# Altium schematic symbol library WR-USB.SchLib: 52 symbols
Pins are listed as number, name and electrical type; pins without a type are passive.

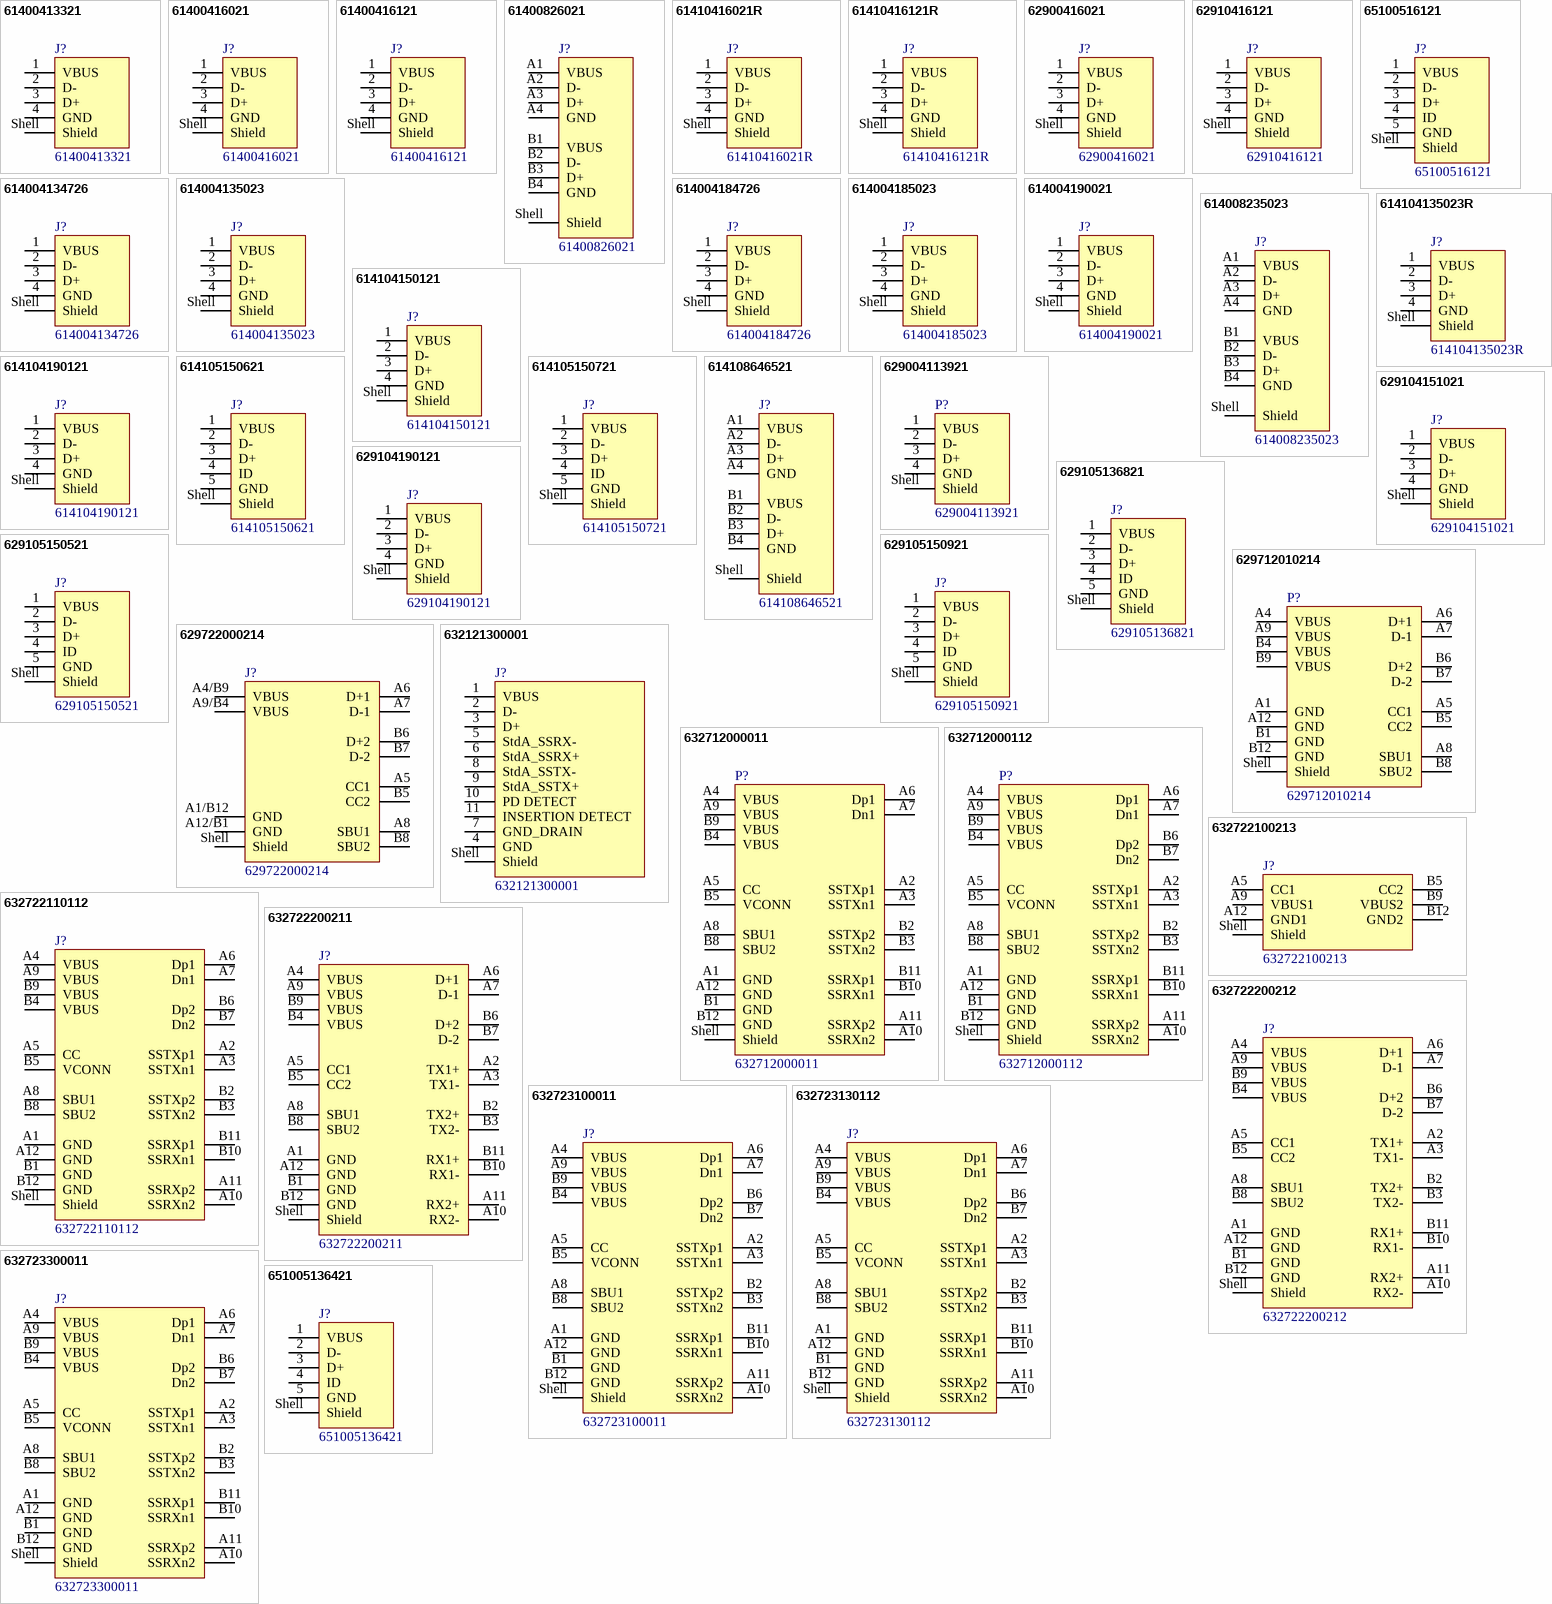
[diagram p0: symbols 61400413321 to 651005136421]

## 61400413321
designator J?
WR-COM USB 2.0 Type B Vertical; Manufacturer: Wurth Elektronik; Match Code: WR-USB; Gender: Receptacle; Interface Type: Type B; Number of Ports: 1; Rated Current: 1.5; Working Voltage: 30V (AC); Manufacturer Part Number: 61400413321; Category: Input/Output Connector; ComponentLink1Description: Website Link; ComponentLink1URL: https://www.we-online.com/redexpert/article/61400413321?ad; ComponentLink2Description: Datasheet Link; ComponentLink2URL: https://www.we-online.com/redexpert/spec/61400413321?ad; Mount: Through Hole; Operating Temperature Min: -40degC; Operating Temperature Max: 105degC; Packaging: Tray; Application: USB 2.0; Number of Pins: 4; Orientation: Vertical
footprint 629722000214 (USB TYPE C VERTICAL PLUG)
pins: 1 VBUS, 2 D-, 3 D+, 4 GND, Shell Shield

## 61400416021
designator J?
WR-COM USB 2.0 Type A Horizontal; Manufacturer: Wurth Elektronik; Match Code: WR-USB; Gender: Receptacle; Interface Type: Type A; Number of Ports: 1; Rated Current: 1.5; Working Voltage: 30V (AC); Manufacturer Part Number: 61400416021; Category: Input/Output Connector; ComponentLink1Description: Website Link; ComponentLink1URL: https://www.we-online.com/redexpert/article/61400416021?ad; ComponentLink2Description: Datasheet Link; ComponentLink2URL: https://www.we-online.com/redexpert/spec/61400416021?ad; Mount: Through Hole; Operating Temperature Min: -40degC; Operating Temperature Max: 105degC; Packaging: Tray; Application: USB 2.0; Number of Pins: 4; Orientation: Horizontal
footprint 61400416021
pins: 1 VBUS, 2 D-, 3 D+, 4 GND, Shell Shield

## 61400416121
designator J?
WR-COM USB 2.0 Horizontal THT; Manufacturer: Wurth Elektronik; Match Code: WR-USB; Gender: Receptacle; Interface Type: Type B; Number of Ports: 1; Rated Current: 1.5; Working Voltage: 30V (AC); Manufacturer Part Number: 61400416121; Category: Input/Output Connector; ComponentLink1Description: Website Link; ComponentLink1URL: https://www.we-online.com/redexpert/article/61400416121?ad; ComponentLink2Description: Datasheet Link; ComponentLink2URL: https://www.we-online.com/redexpert/spec/61400416121?ad; Mount: Through Hole; Operating Temperature Min: -40degC; Operating Temperature Max: 105degC; Packaging: Tray; Application: USB 2.0; Number of Pins: 4; Orientation: Horizontal
footprint 61400416121
pins: 1 VBUS, 2 D-, 3 D+, 4 GND, Shell Shield

## 61400826021
designator J?
WR-COM USB 2.0 Type A Horizontal Dual Stacked; Manufacturer: Wurth Elektronik; Match Code: WR-USB; Gender: Receptacle; Interface Type: Type A; Number of Ports: 2; Rated Current: 1.5; Working Voltage: 30V (AC); Manufacturer Part Number: 61400826021; Category: Input/Output Connector; ComponentLink1Description: Website Link; ComponentLink1URL: https://www.we-online.com/redexpert/article/61400826021?ad; ComponentLink2Description: Datasheet Link; ComponentLink2URL: https://www.we-online.com/redexpert/spec/61400826021?ad; Mount: Through Hole; Operating Temperature Min: -40degC; Operating Temperature Max: 105degC; Packaging: Tray; Application: USB 2.0; Number of Pins: 8; Orientation: Stacked Horizontal
footprint 61400826021
pins: A1 VBUS, A2 D-, A3 D+, A4 GND, B1 VBUS, B2 D-, B3 D+, B4 GND, Shell Shield

## 61410416021R
designator J?
WR-COM USB 2.0 Type A Horizontal THR; Manufacturer: Wurth Elektronik; Match Code: WR-USB; Gender: Receptacle; Interface Type: Type A; Number of Ports: 1; Rated Current: 1.5; Working Voltage: 30V (AC); Manufacturer Part Number: 61410416021R; Category: Input/Output Connector; ComponentLink1Description: Website Link; ComponentLink1URL: https://www.we-online.com/redexpert/article/61410416021R?ad; ComponentLink2Description: Datasheet Link; ComponentLink2URL: https://www.we-online.com/redexpert/spec/61410416021R?ad; Mount: Surface Mount; Operating Temperature Min: -55degC; Operating Temperature Max: 85degC; Packaging: Tape and Reel; Application: USB 2.0; Number of Pins: 4; Orientation: Horizontal
footprint 61410416021R
pins: 1 VBUS, 2 D-, 3 D+, 4 GND, Shell Shield

## 61410416121R
designator J?
WR-COM USB 2.0 Type B Horizontal THR; Manufacturer: Wurth Elektronik; Match Code: WR-USB; Gender: Receptacle; Interface Type: Type B; Number of Ports: 1; Rated Current: 1.5; Working Voltage: 30V (AC); Manufacturer Part Number: 61410416121R; Category: Input/Output Connector; ComponentLink1Description: Website Link; ComponentLink1URL: https://www.we-online.com/redexpert/article/61410416121R?ad; ComponentLink2Description: Datasheet Link; ComponentLink2URL: https://www.we-online.com/redexpert/spec/61410416121R?ad; Mount: Surface Mount; Operating Temperature Min: -55degC; Operating Temperature Max: 85degC; Packaging: Tape and Reel; Application: USB 2.0; Number of Pins: 4; Orientation: Horizontal
footprint 61410416121R
pins: 1 VBUS, 2 D-, 3 D+, 4 GND, Shell Shield

## 62900416021
designator J?
WR-COM USB 2.0 Type A Horizontal SMT; Manufacturer: Wurth Elektronik; Match Code: WR-USB; Gender: Receptacle; Interface Type: Type A; Number of Ports: 1; Rated Current: 1.5; Working Voltage: 30V (AC); Manufacturer Part Number: 62900416021; Category: Input/Output Connector; ComponentLink1Description: Website Link; ComponentLink1URL: https://www.we-online.com/redexpert/article/62900416021?ad; ComponentLink2Description: Datasheet Link; ComponentLink2URL: https://www.we-online.com/redexpert/spec/62900416021?ad; Mount: Surface Mount; Operating Temperature Min: -40degC; Operating Temperature Max: 105degC; Packaging: Tray; Application: USB 2.0; Number of Pins: 4; Orientation: Horizontal
footprint 62900416021
pins: 1 VBUS, 2 D-, 3 D+, 4 GND, Shell Shield

## 62910416121
designator J?
WR-COM USB 2.0 Type B Horizontal SMT; Manufacturer: Wurth Elektronik; Match Code: WR-USB; Gender: Receptacle; Interface Type: Type B; Number of Ports: 1; Rated Current: 1.5; Working Voltage: 30V (AC); Manufacturer Part Number: 62910416121; Category: Input/Output Connector; ComponentLink1Description: Website Link; ComponentLink1URL: https://www.we-online.com/redexpert/article/62910416121?ad; ComponentLink2Description: Datasheet Link; ComponentLink2URL: https://www.we-online.com/redexpert/spec/62910416121?ad; Mount: Surface Mount; Operating Temperature Min: -40degC; Operating Temperature Max: 105degC; Packaging: Tape and Reel; Application: USB 2.0; Number of Pins: 4; Orientation: Horizontal
footprint 62910416121
pins: 1 VBUS, 2 D-, 3 D+, 4 GND, Shell Shield

## 65100516121
designator J?
WR-COM Mini USB 2.0 Type B SMT Horizontal 5 Contacts; Manufacturer: Wurth Elektronik; Match Code: WR-USB; Gender: Receptacle; Interface Type: Type B; Number of Ports: 1; Working Voltage: 30V (AC); Manufacturer Part Number: 65100516121; Category: Input/Output Connector; ComponentLink1Description: Website Link; ComponentLink1URL: https://www.we-online.com/redexpert/article/65100516121?ad; ComponentLink2Description: Datasheet Link; ComponentLink2URL: https://www.we-online.com/redexpert/spec/65100516121?ad; Mount: Surface Mount; Operating Temperature Min: -40degC; Operating Temperature Max: 105degC; Packaging: Tape and Reel & Mylar; Application: Mini USB 2.0; Number of Pins: 5; Orientation: Horizontal; Rated Current: 1
footprint 65100516121
pins: 1 VBUS, 2 D-, 3 D+, 4 ID, 5 GND, Shell Shield

## 614004134726
designator J?
WR-COM USB 2.0 Type A Up Right; Manufacturer: Wurth Elektronik; Match Code: WR-USB; Gender: Receptacle; Interface Type: Type A; Number of Ports: 1; Rated Current: 1.5; Working Voltage: 30V (AC); Manufacturer Part Number: 614004134726; Category: Input/Output Connector; ComponentLink1Description: Website Link; ComponentLink1URL: https://www.we-online.com/redexpert/article/614004134726?ad; ComponentLink2Description: Datasheet Link; ComponentLink2URL: https://www.we-online.com/redexpert/spec/614004134726?ad; Mount: Through Hole; Operating Temperature Min: -40degC; Operating Temperature Max: 105degC; Packaging: Tray; Application: USB 2.0; Number of Pins: 4; Orientation: Up Right
footprint 614004134726
pins: 1 VBUS, 2 D-, 3 D+, 4 GND, Shell Shield

## 614004135023
designator J?
WR-COM USB 2.0 Type A Vertical; Manufacturer: Wurth Elektronik; Match Code: WR-USB; Gender: Receptacle; Interface Type: Type A; Number of Ports: 1; Rated Current: 1.5; Working Voltage: 30V (AC); Manufacturer Part Number: 614004135023; Category: Input/Output Connector; ComponentLink1Description: Website Link; ComponentLink1URL: https://www.we-online.com/redexpert/article/614004135023?ad; ComponentLink2Description: Datasheet Link; ComponentLink2URL: https://www.we-online.com/redexpert/spec/614004135023?ad; Mount: Through Hole; Operating Temperature Min: -40degC; Operating Temperature Max: 105degC; Packaging: Tray; Application: USB 2.0; Number of Pins: 4; Orientation: Vertical
footprint 614004135023
pins: 1 VBUS, 2 D-, 3 D+, 4 GND, Shell Shield

## 614004184726
designator J?
WR-COM USB 2.0 Type A Up Right THT; Manufacturer: Wurth Elektronik; Match Code: WR-USB; Gender: Receptacle; Interface Type: Type A; Number of Ports: 1; Rated Current: 2; Working Voltage: 30V (AC); Manufacturer Part Number: 614004184726; Category: Input/Output Connector; ComponentLink1Description: Website Link; ComponentLink1URL: https://www.we-online.com/redexpert/article/614004184726?ad; ComponentLink2Description: Datasheet Link; ComponentLink2URL: https://www.we-online.com/redexpert/spec/614004184726?ad; Mount: Through Hole; Operating Temperature Min: -40degC; Operating Temperature Max: 85degC; Packaging: Tray; Application: USB 2.0; Number of Pins: 4; Orientation: Up Right - Short Type
footprint 614004184726
pins: 1 VBUS, 2 D-, 3 D+, 4 GND, Shell Shield

## 614004185023
designator J?
WR-COM USB 2.0 Type A Vertical Short Type THT; Manufacturer: Wurth Elektronik; Match Code: WR-USB; Gender: Receptacle; Interface Type: Type A; Number of Ports: 1; Rated Current: 1.5; Working Voltage: 30V (AC); Manufacturer Part Number: 614004185023; Category: Input/Output Connector; ComponentLink1Description: Website Link; ComponentLink1URL: https://www.we-online.com/redexpert/article/614004185023?ad; ComponentLink2Description: Datasheet Link; ComponentLink2URL: https://www.we-online.com/redexpert/spec/614004185023?ad; Mount: Through Hole; Operating Temperature Min: -55degC; Operating Temperature Max: 85degC; Packaging: Tray; Application: USB 2.0; Number of Pins: 4; Orientation: Vertical - Short Type
footprint 614004185023
pins: 1 VBUS, 2 D-, 3 D+, 4 GND, Shell Shield

## 614004190021
designator J?
WR-COM USB 2.0 Type A Horizontal THT; Manufacturer: Wurth Elektronik; Match Code: WR-USB; Gender: Receptacle; Interface Type: Type A; Number of Ports: 1; Rated Current: 3; Working Voltage: 30V (AC); Manufacturer Part Number: 614004190021; Category: Input/Output Connector; ComponentLink1Description: Website Link; ComponentLink1URL: https://www.we-online.com/redexpert/article/614004190021?ad; ComponentLink2Description: Datasheet Link; ComponentLink2URL: https://www.we-online.com/redexpert/spec/614004190021?ad; Mount: Through Hole; Operating Temperature Min: -40degC; Operating Temperature Max: 85degC; Packaging: Tray; Application: USB 2.0; Number of Pins: 4; Orientation: Horizontal
footprint 614004190021
pins: 1 VBUS, 2 D-, 3 D+, 4 GND, Shell Shield

## 614008235023
designator J?
WR-COM USB 2.0 Type A Vertical Dual; Manufacturer: Wurth Elektronik; Match Code: WR-USB; Gender: Receptacle; Interface Type: Type A; Number of Ports: 2; Rated Current: 1.5; Working Voltage: 30V (AC); Manufacturer Part Number: 614008235023; Category: Input/Output Connector; ComponentLink1Description: Website Link; ComponentLink1URL: https://www.we-online.com/redexpert/article/614008235023?ad; ComponentLink2Description: Datasheet Link; ComponentLink2URL: https://www.we-online.com/redexpert/spec/614008235023?ad; Mount: Through Hole; Operating Temperature Min: -40degC; Operating Temperature Max: 105degC; Packaging: Tray; Application: USB 2.0; Number of Pins: 8; Orientation: Stacked Vertical
footprint 614008235023
pins: A1 VBUS, A2 D-, A3 D+, A4 GND, B1 VBUS, B2 D-, B3 D+, B4 GND, Shell Shield

## 614104135023R
designator J?
WR-COM USB 2.0 Type A Vertical THR; Manufacturer: Wurth Elektronik; Match Code: WR-USB; Gender: Receptacle; Interface Type: Type A; Number of Ports: 1; Rated Current: 1.5; Working Voltage: 30V (AC); Manufacturer Part Number: 614104135023R; Category: Input/Output Connector; ComponentLink1Description: Website Link; ComponentLink1URL: https://www.we-online.com/redexpert/article/614104135023R?ad; ComponentLink2Description: Datasheet Link; ComponentLink2URL: https://www.we-online.com/redexpert/spec/614104135023R?ad; Mount: Surface Mount; Operating Temperature Min: -55degC; Operating Temperature Max: 85degC; Packaging: Tape and Reel; Application: USB 2.0; Number of Pins: 4; Orientation: Vertical
footprint 614104135023R
pins: 1 VBUS, 2 D-, 3 D+, 4 GND, Shell Shield

## 614104150121
designator J?
WR-COM USB 2.0 Type A Horizontal THT Short Type; Manufacturer: Wurth Elektronik; Match Code: WR-USB; Gender: Receptacle; Interface Type: Type A; Number of Ports: 1; Rated Current: 1.5; Working Voltage: 30V (AC); Manufacturer Part Number: 614104150121; Category: Input/Output Connector; ComponentLink1Description: Website Link; ComponentLink1URL: https://www.we-online.com/redexpert/article/614104150121?ad; ComponentLink2Description: Datasheet Link; ComponentLink2URL: https://www.we-online.com/redexpert/spec/614104150121?ad; Mount: Through Hole; Operating Temperature Min: -40degC; Operating Temperature Max: 85degC; Packaging: Tape and Reel & Mylar; Application: USB 2.0; Number of Pins: 4; Orientation: Horizontal - Short Type
footprint 614104150121
pins: 1 VBUS, 2 D-, 3 D+, 4 GND, Shell Shield

## 614104190121
designator J?
WR-COM USB 2.0 Type A Horizontal THT Short Type; Manufacturer: Wurth Elektronik; Match Code: WR-USB; Gender: Receptacle; Interface Type: Type A; Number of Ports: 1; Rated Current: 1.5; Working Voltage: 30V (AC); Manufacturer Part Number: 614104190121; Category: Input/Output Connector; ComponentLink1Description: Website Link; ComponentLink1URL: https://www.we-online.com/redexpert/article/614104190121?ad; ComponentLink2Description: Datasheet Link; ComponentLink2URL: https://www.we-online.com/redexpert/spec/614104190121?ad; Mount: Through Hole; Operating Temperature Min: -55degC; Operating Temperature Max: 85degC; Packaging: Tape and Reel & Mylar; Application: USB 2.0; Number of Pins: 4; Orientation: Horizontal - Short Type
footprint 614104190121
pins: 1 VBUS, 2 D-, 3 D+, 4 GND, Shell Shield

## 614105150621
designator J?
WR-COM Micro USB 2.0 Type AB Vertical 5 Contacts; Manufacturer: Wurth Elektronik; Match Code: WR-USB; Gender: Receptacle; Interface Type: Type AB; Number of Ports: 1; Rated Current: 1.8; Working Voltage: 30V (AC); Manufacturer Part Number: 614105150621; Category: Input/Output Connector; ComponentLink1Description: Website Link; ComponentLink1URL: https://www.we-online.com/redexpert/article/614105150621?ad; ComponentLink2Description: Datasheet Link; ComponentLink2URL: https://www.we-online.com/redexpert/spec/614105150621?ad; Mount: Through Hole; Operating Temperature Min: -40degC; Operating Temperature Max: 85degC; Packaging: Tape and Reel; Application: Micro USB 2.0; Number of Pins: 5; Orientation: Vertical
footprint 614105150621
pins: 1 VBUS, 2 D-, 3 D+, 4 ID, 5 GND, Shell Shield

## 614105150721
designator J?
WR-COM Micro USB 2.0 Type B Vertical 5 Contacts; Manufacturer: Wurth Elektronik; Match Code: WR-USB; Gender: Receptacle; Interface Type: Type B; Number of Ports: 1; Rated Current: 1.8; Working Voltage: 30V (AC); Manufacturer Part Number: 614105150721; Category: Input/Output Connector; ComponentLink1Description: Website Link; ComponentLink1URL: https://www.we-online.com/redexpert/article/614105150721?ad; ComponentLink2Description: Datasheet Link; ComponentLink2URL: https://www.we-online.com/redexpert/spec/614105150721?ad; Mount: Through Hole; Operating Temperature Min: -40degC; Operating Temperature Max: 85degC; Packaging: Tape and Reel; Application: Micro USB 2.0; Number of Pins: 5; Orientation: Vertical
footprint 614105150721
pins: 1 VBUS, 2 D-, 3 D+, 4 ID, 5 GND, Shell Shield

## 614108646521
designator J?
WR-COM Type A Horizontal THR Dual Mid-Mount; Manufacturer: Wurth Elektronik; Match Code: WR-USB; Gender: Receptacle; Interface Type: Type A; Number of Ports: 2; Rated Current: 2.5; Working Voltage: 30V (AC); Manufacturer Part Number: 614108646521; Category: Input/Output Connector; ComponentLink1Description: Website Link; ComponentLink1URL: https://www.we-online.com/redexpert/article/614108646521?ad; ComponentLink2Description: Datasheet Link; ComponentLink2URL: https://www.we-online.com/redexpert/spec/614108646521?ad; Mount: Surface Mount; Operating Temperature Min: -40degC; Operating Temperature Max: 85degC; Packaging: Tape and Reel; Application: USB 2.0; Number of Pins: 8; Orientation: Stacked Horizontal
footprint 614108646521
pins: A1 VBUS, A2 D-, A3 D+, A4 GND, B1 VBUS, B2 D-, B3 D+, B4 GND, Shell Shield

## 629004113921
designator P?
WR-COM USB 2.0 Plug Type A SMT with Clip; Manufacturer: Wurth Elektronik; Match Code: WR-USB; Interface Type: Type A; Number of Ports: 1; Rated Current: 1.5; Working Voltage: 30V (AC); Manufacturer Part Number: 629004113921; Category: Input/Output Connector; ComponentLink1Description: Website Link; ComponentLink1URL: https://www.we-online.com/redexpert/article/629004113921?ad; ComponentLink2Description: Datasheet Link; ComponentLink2URL: https://www.we-online.com/redexpert/spec/629004113921?ad; Mount: Surface Mount; Operating Temperature Min: -40degC; Operating Temperature Max: 105degC; Packaging: Tube; Application: USB 2.0; Gender: Plug; Number of Pins: 4; Orientation: Horizontal
footprint 629004113921
pins: 1 VBUS, 2 D-, 3 D+, 4 GND, Shell Shield

## 629104151021
designator J?
WR-COM USB 2.0 Type A Horizontal SMT with pegs; Manufacturer: Wurth Elektronik; Match Code: WR-USB; Gender: Receptacle; Interface Type: Type A; Number of Ports: 1; Rated Current: 1.5; Working Voltage: 30V (AC); Manufacturer Part Number: 629104151021; Category: Input/Output Connector; ComponentLink1Description: Website Link; ComponentLink1URL: https://www.we-online.com/redexpert/article/629104151021?ad; ComponentLink2Description: Datasheet Link; ComponentLink2URL: https://www.we-online.com/redexpert/spec/629104151021?ad; Mount: Surface Mount; Operating Temperature Min: -40degC; Operating Temperature Max: 85degC; Packaging: Tape and Reel; Application: USB 2.0; Number of Pins: 4; Orientation: Horizontal
footprint 629104151021
pins: 1 VBUS, 2 D-, 3 D+, 4 GND, Shell Shield

## 629104190121
designator J?
WR-COM USB 2.0 Type A Horizontal SMT Short Type; Manufacturer: Wurth Elektronik; Match Code: WR-USB; Gender: Receptacle; Interface Type: Type A; Number of Ports: 1; Rated Current: 1.5; Working Voltage: 30V (AC); Manufacturer Part Number: 629104190121; Category: Input/Output Connector; ComponentLink1Description: Website Link; ComponentLink1URL: https://www.we-online.com/redexpert/article/629104190121?ad; ComponentLink2Description: Datasheet Link; ComponentLink2URL: https://www.we-online.com/redexpert/spec/629104190121?ad; Mount: Surface Mount; Operating Temperature Min: -40degC; Operating Temperature Max: 85degC; Packaging: Tape and Reel & Mylar; Application: USB 2.0; Number of Pins: 4; Orientation: Horizontal - Short Type
footprint 629104190121
pins: 1 VBUS, 2 D-, 3 D+, 4 GND, Shell Shield

## 629105136821
designator J?
WR-COM Micro USB 2.0 SMT Type B Horizontal 5 Contacts; Manufacturer: Wurth Elektronik; Match Code: WR-USB; Gender: Receptacle; Interface Type: Type B; Number of Ports: 1; Working Voltage: 30V (AC); Manufacturer Part Number: 629105136821; Category: Input/Output Connector; ComponentLink1Description: Website Link; ComponentLink1URL: https://www.we-online.com/redexpert/article/629105136821?ad; ComponentLink2Description: Datasheet Link; ComponentLink2URL: https://www.we-online.com/redexpert/spec/629105136821?ad; Mount: Surface Mount; Operating Temperature Min: -40degC; Operating Temperature Max: 105degC; Packaging: Tape and Reel; Application: Micro USB 2.0; Number of Pins: 5; Orientation: Horizontal; Rated Current: 1
footprint 629105136821
pins: 1 VBUS, 2 D-, 3 D+, 4 ID, 5 GND, Shell Shield

## 629105150521
designator J?
WR-COM Micro USB 2.0 SMT Type B Horizontal 5 Contacts High Current; Manufacturer: Wurth Elektronik; Match Code: WR-USB; Gender: Receptacle; Interface Type: Type B; Number of Ports: 1; Rated Current: 3; Working Voltage: 30V (AC); Manufacturer Part Number: 629105150521; Category: Input/Output Connector; ComponentLink1Description: Website Link; ComponentLink1URL: https://www.we-online.com/redexpert/article/629105150521?ad; ComponentLink2Description: Datasheet Link; ComponentLink2URL: https://www.we-online.com/redexpert/spec/629105150521?ad; Mount: Surface Mount; Operating Temperature Min: -40degC; Operating Temperature Max: 85degC; Packaging: Tape and Reel; Application: Micro USB 2.0; Number of Pins: 5; Orientation: Horizontal
footprint 629105150521
pins: 1 VBUS, 2 D-, 3 D+, 4 ID, 5 GND, Shell Shield

## 629105150921
designator J?
WR-COM Micro USB 2.0 Type AB Horizontal; Manufacturer: Wurth Elektronik; Match Code: WR-USB; Gender: Receptacle; Interface Type: Type AB; Number of Ports: 1; Rated Current: 1.8; Working Voltage: 30V (AC); Manufacturer Part Number: 629105150921; Category: Input/Output Connector; ComponentLink1Description: Website Link; ComponentLink1URL: https://www.we-online.com/redexpert/article/629105150921?ad; ComponentLink2Description: Datasheet Link; ComponentLink2URL: https://www.we-online.com/redexpert/spec/629105150921?ad; Mount: Surface Mount; Operating Temperature Min: -40degC; Operating Temperature Max: 85degC; Packaging: Tape and Reel; Application: Micro USB 2.0; Number of Pins: 5; Orientation: Horizontal
footprint 629105150921
pins: 1 VBUS, 2 D-, 3 D+, 4 ID, 5 GND, Shell Shield

## 629712010214
designator P?
WR-COM USB 2.0 Type C Plug Vertical SMT; Manufacturer: Wurth Elektronik; Match Code: WR-USB; Interface Type: Type C; Number of Ports: 1; Rated Current: 5; Working Voltage: 48V (DC); Manufacturer Part Number: 629712010214; Category: Input/Output Connector; ComponentLink1Description: Website Link; ComponentLink1URL: https://www.we-online.com/redexpert/article/629712010214?ad; ComponentLink2Description: Datasheet Link; ComponentLink2URL: https://www.we-online.com/redexpert/spec/629712010214?ad; Mount: Surface Mount; Operating Temperature Min: -40degC; Operating Temperature Max: 85degC; Packaging: Tape and Reel; Application: USB 2.0; Gender: Plug; Number of Pins: 16; Orientation: Vertical
footprint 629712010214
pins: A1 GND, A4 VBUS, A5 CC1, A6 D+1, A7 D-1, A8 SBU1, A9 VBUS, A12 GND, B1 GND, B4 VBUS, B5 CC2, B6 D+2, B7 D-2, B8 SBU2, B9 VBUS, B12 GND, Shell Shield

## 629722000214
designator J?
WR-COM USB 2.0 Type C Receptacle Horizontal SMT; Manufacturer: Wurth Elektronik; Match Code: WR-USB; Interface Type: Type C; Number of Ports: 1; Rated Current: 5; Working Voltage: 48V (DC); Manufacturer Part Number: 629722000214; Category: Input/Output Connector; ComponentLink1Description: Website Link; ComponentLink1URL: https://www.we-online.com/redexpert/article/629722000214?ad; ComponentLink2Description: Datasheet Link; ComponentLink2URL: https://www.we-online.com/redexpert/spec/629722000214?ad; Mount: Surface Mount; Operating Temperature Min: -40degC; Operating Temperature Max: 85degC; Packaging: Tape and Reel; Application: USB 2.0; Gender: Receptacle; Number of Pins: 16; Orientation: Horizontal
footprint 629722000214
pins: A1/B12 GND, A4/B9 VBUS, A5 CC1, A6 D+1, A7 D-1, A8 SBU1, A9/B4 VBUS, A12/B1 GND, B5 CC2, B6 D+2, B7 D-2, B8 SBU2, Shell Shield

## 632121300001
designator J?
WR-COM USB 3.1 Type A Receptacle Horizontal THT Power Delivery; Manufacturer: Wurth Elektronik; Match Code: WR-USB; Interface Type: Type A; Number of Ports: 1; Rated Current: 5; Working Voltage: 20V (DC); Manufacturer Part Number: 632121300001; Category: Input/Output Connector; ComponentLink1Description: Website Link; ComponentLink1URL: https://www.we-online.com/redexpert/article/632121300001?ad; ComponentLink2Description: Datasheet Link; ComponentLink2URL: https://www.we-online.com/redexpert/spec/632121300001?ad; Mount: Surface Mount; Operating Temperature Min: -20degC; Operating Temperature Max: 85degC; Packaging: Tray; Application: USB 3.1; Gender: Receptacle; Number of Pins: 9; Orientation: Horizontal
footprint 632121300001
pins: 1 VBUS, 2 D-, 3 D+, 4 GND, 5 StdA_SSRX-, 6 StdA_SSRX+, 7 GND_DRAIN, 8 StdA_SSTX-, 9 StdA_SSTX+, 10 PD DETECT, 11 INSERTION DETECT, Shell Shield

## 632712000011
designator P?
WR-COM USB 3.1 Type C Plug Horizontal SMT 0.8 mm; Manufacturer: Wurth Elektronik; Match Code: WR-USB; Interface Type: Type C; Number of Ports: 1; Rated Current: 5; Working Voltage: 20V (DC); Manufacturer Part Number: 632712000011; Category: Input/Output Connector; ComponentLink1Description: Website Link; ComponentLink1URL: https://www.we-online.com/redexpert/article/632712000011?ad; ComponentLink2Description: Datasheet Link; ComponentLink2URL: https://www.we-online.com/redexpert/spec/632712000011?ad; Mount: Surface Mount; Operating Temperature Min: -25degC; Operating Temperature Max: 105degC; Packaging: Tape and Reel with Cap; Application: USB 3.1; Gender: Plug; Number of Pins: 22; Orientation: Horizontal
footprint 632712000011
pins: A1 GND, A2 SSTXp1, A3 SSTXn1, A4 VBUS, A5 CC, A6 Dp1, A7 Dn1, A8 SBU1, A9 VBUS, A10 SSRXn2, A11 SSRXp2, A12 GND, B1 GND, B2 SSTXp2, B3 SSTXn2, B4 VBUS, B5 VCONN, B8 SBU2, B9 VBUS, B10 SSRXn1, B11 SSRXp1, B12 GND, Shell Shield

## 632712000112
designator P?
WR-COM USB 3.1 Type C Plug Horizontal 0.8 mm; Manufacturer: Wurth Elektronik; Match Code: WR-USB; Interface Type: Type C; Number of Ports: 1; Rated Current: 5; Working Voltage: 48V (DC); Manufacturer Part Number: 632712000112; Category: Input/Output Connector; ComponentLink1Description: Website Link; ComponentLink1URL: https://www.we-online.com/redexpert/article/632712000112?ad; ComponentLink2Description: Datasheet Link; ComponentLink2URL: https://www.we-online.com/redexpert/spec/632712000112?ad; Mount: Surface Mount; Operating Temperature Min: -40degC; Operating Temperature Max: 85degC; Packaging: Tray; Application: USB 3.1; Gender: Plug; Number of Pins: 24; Orientation: Horizontal
footprint 632712000112
pins: A1 GND, A2 SSTXp1, A3 SSTXn1, A4 VBUS, A5 CC, A6 Dp1, A7 Dn1, A8 SBU1, A9 VBUS, A10 SSRXn2, A11 SSRXp2, A12 GND, B1 GND, B2 SSTXp2, B3 SSTXn2, B4 VBUS, B5 VCONN, B6 Dp2, B7 Dn2, B8 SBU2, B9 VBUS, B10 SSRXn1, B11 SSRXp1, B12 GND, Shell Shield

## 632722100213
designator J?
WR-COM USB Power Delivery Type C Receptacle Horizontal SMT; Manufacturer: Wurth Elektronik; Match Code: WR-USB; Number of Ports: 1; Rated Current: 5; Working Voltage: 48V (DC); Manufacturer Part Number: 632722100213; Category: Input/Output Connector; ComponentLink1Description: Website Link; ComponentLink1URL: https://www.we-online.com/redexpert/article/632722100213?ad; ComponentLink2Description: Datasheet Link; ComponentLink2URL: https://www.we-online.com/redexpert/spec/632722100213?ad; Mount: Surface Mount; Operating Temperature Min: -40degC; Operating Temperature Max: 85degC; Packaging: Tape and Reel; Application: USB Power Delivery; Gender: Receptacle; Number of Pins: 6; Orientation: Horizontal
footprint 632722100213
pins: A5 CC1, A9 VBUS1, A12 GND1, B5 CC2, B9 VBUS2, B12 GND2, Shell Shield

## 632722110112
designator J?
WR-COM USB 3.1 Type C Receptacle Vertical SMT 1.0 mm; Manufacturer: Wurth Elektronik; Match Code: WR-USB; Interface Type: Type C; Number of Ports: 1; Rated Current: 5; Working Voltage: 48V (DC); Manufacturer Part Number: 632722110112; Category: Input/Output Connector; ComponentLink1Description: Website Link; ComponentLink1URL: https://www.we-online.com/redexpert/article/632722110112?ad; ComponentLink2Description: Datasheet Link; ComponentLink2URL: https://www.we-online.com/redexpert/spec/632722110112?ad; Mount: Surface Mount; Operating Temperature Min: -40degC; Operating Temperature Max: 85degC; Packaging: Tape and Reel; Application: USB 3.1; Gender: Receptacle; Number of Pins: 24; Orientation: Vertical
footprint 632722110112
pins: A1 GND, A2 SSTXp1, A3 SSTXn1, A4 VBUS, A5 CC, A6 Dp1, A7 Dn1, A8 SBU1, A9 VBUS, A10 SSRXn2, A11 SSRXp2, A12 GND, B1 GND, B2 SSTXp2, B3 SSTXn2, B4 VBUS, B5 VCONN, B6 Dp2, B7 Dn2, B8 SBU2, B9 VBUS, B10 SSRXn1, B11 SSRXp1, B12 GND, Shell Shield

## 632722200211
designator J?
WR-COM USB 3.1 Type C Receptacle Horizontal SMT; Manufacturer: Wurth Elektronik; Match Code: WR-USB; Interface Type: Type C; Number of Ports: 1; Rated Current: 5; Working Voltage: 20V (DC); Manufacturer Part Number: 632722200211; Category: Input/Output Connector; ComponentLink1Description: Website Link; ComponentLink1URL: https://www.we-online.com/redexpert/article/632722200211?ad; ComponentLink2Description: Datasheet Link; ComponentLink2URL: https://www.we-online.com/redexpert/spec/632722200211?ad; Mount: Surface Mount; Operating Temperature Min: -30degC; Operating Temperature Max: 85degC; Packaging: Tape and Reel; Application: USB 3.2 Gen 1; Gender: Receptacle; Number of Pins: 24; Orientation: Horizontal
footprint 632722200211
pins: A1 GND, A2 TX1+, A3 TX1-, A4 VBUS, A5 CC1, A6 D+1, A7 D-1, A8 SBU1, A9 VBUS, A10 RX2-, A11 RX2+, A12 GND, B1 GND, B2 TX2+, B3 TX2-, B4 VBUS, B5 CC2, B6 D+2, B7 D-2, B8 SBU2, B9 VBUS, B10 RX1-, B11 RX1+, B12 GND, Shell Shield

## 632722200212
designator J?
WR-COM USB 3.1 Type C Receptacle Horizontal High-Rise SMT; Manufacturer: Wurth Elektronik; Match Code: WR-USB; Interface Type: Type C; Number of Ports: 1; Rated Current: 5; Working Voltage: 48V (DC); Manufacturer Part Number: 632722200212; Category: Input/Output Connector; ComponentLink1Description: Website Link; ComponentLink1URL: https://www.we-online.com/redexpert/article/632722200212?ad; ComponentLink2Description: Datasheet Link; ComponentLink2URL: https://www.we-online.com/redexpert/spec/632722200212?ad; Mount: Surface Mount; Operating Temperature Min: -40degC; Operating Temperature Max: 120degC; Packaging: Tape and Reel; Application: USB 3.1; Gender: Receptacle; Number of Pins: 24; Orientation: Horizontal
footprint 632722200212
pins: A1 GND, A2 TX1+, A3 TX1-, A4 VBUS, A5 CC1, A6 D+1, A7 D-1, A8 SBU1, A9 VBUS, A10 RX2-, A11 RX2+, A12 GND, B1 GND, B2 TX2+, B3 TX2-, B4 VBUS, B5 CC2, B6 D+2, B7 D-2, B8 SBU2, B9 VBUS, B10 RX1-, B11 RX1+, B12 GND, Shell Shield

## 632723100011
designator J?
WR-COM USB 3.1 Type C Receptacle Horizontal THR / SMT; Manufacturer: Wurth Elektronik; Match Code: WR-USB; Interface Type: Type C; Number of Ports: 1; Rated Current: 5; Working Voltage: 48V (DC); Manufacturer Part Number: 632723100011; Category: Input/Output Connector; ComponentLink1Description: Website Link; ComponentLink1URL: https://www.we-online.com/redexpert/article/632723100011?ad; ComponentLink2Description: Datasheet Link; ComponentLink2URL: https://www.we-online.com/redexpert/spec/632723100011?ad; Mount: Surface Mount; Operating Temperature Min: -40degC; Operating Temperature Max: 105degC; Packaging: Tape and Reel; Application: USB 3.1; Gender: Receptacle; Number of Pins: 24; Orientation: Horizontal
footprint 632723100011
pins: A1 GND, A2 SSTXp1, A3 SSTXn1, A4 VBUS, A5 CC, A6 Dp1, A7 Dn1, A8 SBU1, A9 VBUS, A10 SSRXn2, A11 SSRXp2, A12 GND, B1 GND, B2 SSTXp2, B3 SSTXn2, B4 VBUS, B5 VCONN, B6 Dp2, B7 Dn2, B8 SBU2, B9 VBUS, B10 SSRXn1, B11 SSRXp1, B12 GND, Shell Shield

## 632723130112
designator J?
WR-COM USB 3.1 Type C Receptacle Horizontal Mid-Mount THR / SMT 1.6 mm; Manufacturer: Wurth Elektronik; Match Code: WR-USB; Interface Type: Type C; Number of Ports: 1; Rated Current: 5; Working Voltage: 48V (DC); Manufacturer Part Number: 632723130112; Category: Input/Output Connector; ComponentLink1Description: Website Link; ComponentLink1URL: https://www.we-online.com/redexpert/article/632723130112?ad; ComponentLink2Description: Datasheet Link; ComponentLink2URL: https://www.we-online.com/redexpert/spec/632723130112?ad; Mount: Surface Mount; Operating Temperature Min: -40degC; Operating Temperature Max: 85degC; Packaging: Tape and Reel; Application: USB 3.1; Gender: Receptacle; Number of Pins: 24; Orientation: Horizontal
footprint 632723130112
pins: A1 GND, A2 SSTXp1, A3 SSTXn1, A4 VBUS, A5 CC, A6 Dp1, A7 Dn1, A8 SBU1, A9 VBUS, A10 SSRXn2, A11 SSRXp2, A12 GND, B1 GND, B2 SSTXp2, B3 SSTXn2, B4 VBUS, B5 VCONN, B6 Dp2, B7 Dn2, B8 SBU2, B9 VBUS, B10 SSRXn1, B11 SSRXp1, B12 GND, Shell Shield

## 632723300011
designator J?
WR-COM USB 3.1 Type C Receptacle Horizontal THR / SMT; Manufacturer: Wurth Elektronik; Match Code: WR-USB; Interface Type: Type C; Number of Ports: 1; Rated Current: 5; Working Voltage: 48V (DC); Manufacturer Part Number: 632723300011; Category: Input/Output Connector; ComponentLink1Description: Website Link; ComponentLink1URL: https://www.we-online.com/redexpert/article/632723300011?ad; ComponentLink2Description: Datasheet Link; ComponentLink2URL: https://www.we-online.com/redexpert/spec/632723300011?ad; Mount: Surface Mount; Operating Temperature Min: -40degC; Operating Temperature Max: 105degC; Packaging: Tape and Reel; Application: USB 3.1; Gender: Receptacle; Number of Pins: 24; Orientation: Horizontal
footprint 632723300011
pins: A1 GND, A2 SSTXp1, A3 SSTXn1, A4 VBUS, A5 CC, A6 Dp1, A7 Dn1, A8 SBU1, A9 VBUS, A10 SSRXn2, A11 SSRXp2, A12 GND, B1 GND, B2 SSTXp2, B3 SSTXn2, B4 VBUS, B5 VCONN, B6 Dp2, B7 Dn2, B8 SBU2, B9 VBUS, B10 SSRXn1, B11 SSRXp1, B12 GND, Shell Shield

## 651005136421
designator J?
WR-COM Mini USB 2.0 Type B Vertical 5 Contacts; Manufacturer: Wurth Elektronik; Match Code: WR-USB; Gender: Receptacle; Interface Type: Type B; Number of Ports: 1; Working Voltage: 30V (AC); Manufacturer Part Number: 651005136421; Category: Input/Output Connector; ComponentLink1Description: Website Link; ComponentLink1URL: https://www.we-online.com/redexpert/article/651005136421?ad; ComponentLink2Description: Datasheet Link; ComponentLink2URL: https://www.we-online.com/redexpert/spec/651005136421?ad; Mount: Through Hole; Operating Temperature Min: -40degC; Operating Temperature Max: 105degC; Packaging: Tray; Application: Mini USB 2.0; Number of Pins: 5; Orientation: Vertical; Rated Current: 1
footprint 651005136421
pins: 1 VBUS, 2 D-, 3 D+, 4 ID, 5 GND, Shell Shield

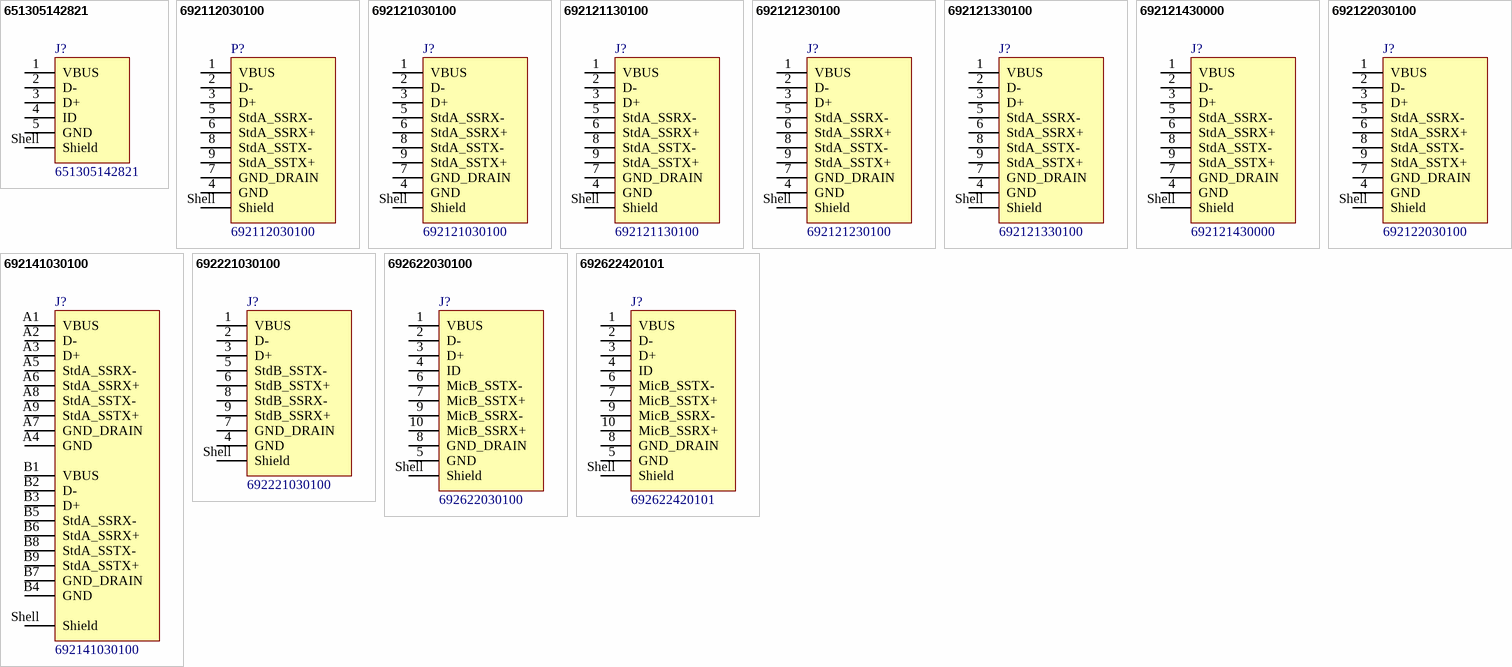
[diagram p1: symbols 651305142821 to 692622420101]

## 651305142821
designator J?
WR-COM Mini USB 2.0 Type AB SMT Horizontal 5 Contacts; Manufacturer: Wurth Elektronik; Match Code: WR-USB; Gender: Receptacle; Interface Type: Type AB; Number of Ports: 1; Working Voltage: 30V (AC); Manufacturer Part Number: 651305142821; Category: Input/Output Connector; ComponentLink1Description: Website Link; ComponentLink1URL: https://www.we-online.com/redexpert/article/651305142821?ad; ComponentLink2Description: Datasheet Link; ComponentLink2URL: https://www.we-online.com/redexpert/spec/651305142821?ad; Mount: Surface Mount; Operating Temperature Min: -40degC; Operating Temperature Max: 105degC; Packaging: Tape and Reel; Application: Mini USB 2.0; Number of Pins: 5; Orientation: Horizontal; Rated Current: 1
footprint 651305142821
pins: 1 VBUS, 2 D-, 3 D+, 4 ID, 5 GND, Shell Shield

## 692112030100
designator P?
WR-COM USB 3.0 Type A SMT Plug with Clip; Manufacturer: Wurth Elektronik; Match Code: WR-USB; Interface Type: Type A; Number of Ports: 1; Rated Current: 1.8; Working Voltage: 30V (AC); Manufacturer Part Number: 692112030100; Category: Input/Output Connector; ComponentLink1Description: Website Link; ComponentLink1URL: https://www.we-online.com/redexpert/article/692112030100?ad; ComponentLink2Description: Datasheet Link; ComponentLink2URL: https://www.we-online.com/redexpert/spec/692112030100?ad; Mount: Surface Mount; Operating Temperature Min: -20degC; Operating Temperature Max: 85degC; Packaging: Tray; Application: USB 3.0; Gender: Plug; Number of Pins: 9; Orientation: Horizontal
footprint 692112030100
pins: 1 VBUS, 2 D-, 3 D+, 4 GND, 5 StdA_SSRX-, 6 StdA_SSRX+, 7 GND_DRAIN, 8 StdA_SSTX-, 9 StdA_SSTX+, Shell Shield

## 692121030100
designator J?
WR-COM USB 3.0 Type A Horizontal; Manufacturer: Wurth Elektronik; Match Code: WR-USB; Gender: Receptacle; Interface Type: Type A; Number of Ports: 1; Rated Current: 1.8; Working Voltage: 30V (AC); Manufacturer Part Number: 692121030100; Category: Input/Output Connector; ComponentLink1Description: Website Link; ComponentLink1URL: https://www.we-online.com/redexpert/article/692121030100?ad; ComponentLink2Description: Datasheet Link; ComponentLink2URL: https://www.we-online.com/redexpert/spec/692121030100?ad; Mount: Through Hole; Operating Temperature Min: -20degC; Operating Temperature Max: 85degC; Packaging: Tape and Reel; Application: USB 3.0; Number of Pins: 9; Orientation: Horizontal
footprint 692121030100
pins: 1 VBUS, 2 D-, 3 D+, 4 GND, 5 StdA_SSRX-, 6 StdA_SSRX+, 7 GND_DRAIN, 8 StdA_SSTX-, 9 StdA_SSTX+, Shell Shield

## 692121130100
designator J?
WR-COM USB 3.0 Type A Reverse Horizontal with Offset 0.14 mm; Manufacturer: Wurth Elektronik; Match Code: WR-USB; Gender: Receptacle; Interface Type: Type A; Number of Ports: 1; Rated Current: 1.8; Working Voltage: 30V (AC); Manufacturer Part Number: 692121130100; Category: Input/Output Connector; ComponentLink1Description: Website Link; ComponentLink1URL: https://www.we-online.com/redexpert/article/692121130100?ad; ComponentLink2Description: Datasheet Link; ComponentLink2URL: https://www.we-online.com/redexpert/spec/692121130100?ad; Mount: Surface Mount; Operating Temperature Min: -20degC; Operating Temperature Max: 85degC; Packaging: Tape and Reel; Application: USB 3.0; Number of Pins: 9; Orientation: Reverse Horizontal
footprint 692121130100
pins: 1 VBUS, 2 D-, 3 D+, 4 GND, 5 StdA_SSRX-, 6 StdA_SSRX+, 7 GND_DRAIN, 8 StdA_SSTX-, 9 StdA_SSTX+, Shell Shield

## 692121230100
designator J?
WR-COM USB 3.0 Type A Horizontal with Offset 1.04 mm; Manufacturer: Wurth Elektronik; Match Code: WR-USB; Gender: Receptacle; Interface Type: Type A; Number of Ports: 1; Rated Current: 1.8; Working Voltage: 30V (AC); Manufacturer Part Number: 692121230100; Category: Input/Output Connector; ComponentLink1Description: Website Link; ComponentLink1URL: https://www.we-online.com/redexpert/article/692121230100?ad; ComponentLink2Description: Datasheet Link; ComponentLink2URL: https://www.we-online.com/redexpert/spec/692121230100?ad; Mount: Surface Mount; Operating Temperature Min: -20degC; Operating Temperature Max: 85degC; Packaging: Tape and Reel; Application: USB 3.0; Number of Pins: 9; Orientation: Horizontal
footprint 692121230100
pins: 1 VBUS, 2 D-, 3 D+, 4 GND, 5 StdA_SSRX-, 6 StdA_SSRX+, 7 GND_DRAIN, 8 StdA_SSTX-, 9 StdA_SSTX+, Shell Shield

## 692121330100
designator J?
WR-COM USB 3.0 Type A Reverse Horizontal with Offset 1.75 mm; Manufacturer: Wurth Elektronik; Match Code: WR-USB; Gender: Receptacle; Interface Type: Type A; Number of Ports: 1; Rated Current: 1.8; Working Voltage: 30V (AC); Manufacturer Part Number: 692121330100; Category: Input/Output Connector; ComponentLink1Description: Website Link; ComponentLink1URL: https://www.we-online.com/redexpert/article/692121330100?ad; ComponentLink2Description: Datasheet Link; ComponentLink2URL: https://www.we-online.com/redexpert/spec/692121330100?ad; Mount: Surface Mount; Operating Temperature Min: -20degC; Operating Temperature Max: 85degC; Packaging: Tape and Reel; Application: USB 3.0; Number of Pins: 9; Orientation: Reverse Horizontal
footprint 692121330100
pins: 1 VBUS, 2 D-, 3 D+, 4 GND, 5 StdA_SSRX-, 6 StdA_SSRX+, 7 GND_DRAIN, 8 StdA_SSTX-, 9 StdA_SSTX+, Shell Shield

## 692121430000
designator J?
WR-COM USB 3.0 Type A Vertical THT; Manufacturer: Wurth Elektronik; Match Code: WR-USB; Gender: Receptacle; Interface Type: Type A; Number of Ports: 1; Rated Current: 1.8; Working Voltage: 30V (AC); Manufacturer Part Number: 692121430000; Category: Input/Output Connector; ComponentLink1Description: Website Link; ComponentLink1URL: https://www.we-online.com/redexpert/article/692121430000?ad; ComponentLink2Description: Datasheet Link; ComponentLink2URL: https://www.we-online.com/redexpert/spec/692121430000?ad; Mount: Through Hole; Operating Temperature Min: -20degC; Operating Temperature Max: 85degC; Packaging: Tray; Application: USB 3.0; Number of Pins: 9; Orientation: Vertical
footprint 692121430000
pins: 1 VBUS, 2 D-, 3 D+, 4 GND, 5 StdA_SSRX-, 6 StdA_SSRX+, 7 GND_DRAIN, 8 StdA_SSTX-, 9 StdA_SSTX+, Shell Shield

## 692122030100
designator J?
WR-COM USB 3.0 Type A Horizontal SMT; Manufacturer: Wurth Elektronik; Match Code: WR-USB; Gender: Receptacle; Interface Type: Type A; Number of Ports: 1; Rated Current: 1.8; Working Voltage: 30V (AC); Manufacturer Part Number: 692122030100; Category: Input/Output Connector; ComponentLink1Description: Website Link; ComponentLink1URL: https://www.we-online.com/redexpert/article/692122030100?ad; ComponentLink2Description: Datasheet Link; ComponentLink2URL: https://www.we-online.com/redexpert/spec/692122030100?ad; Mount: Surface Mount; Operating Temperature Min: -20degC; Operating Temperature Max: 85degC; Packaging: Tape and Reel; Application: USB 3.0; Number of Pins: 9; Orientation: Horizontal
footprint 692122030100
pins: 1 VBUS, 2 D-, 3 D+, 4 GND, 5 StdA_SSRX-, 6 StdA_SSRX+, 7 GND_DRAIN, 8 StdA_SSTX-, 9 StdA_SSTX+, Shell Shield

## 692141030100
designator J?
WR-COM USB 3.0 Type A Stacked; Manufacturer: Wurth Elektronik; Match Code: WR-USB; Gender: Receptacle; Interface Type: Type A; Number of Ports: 2; Rated Current: 1.8; Working Voltage: 30V (AC); Manufacturer Part Number: 692141030100; Category: Input/Output Connector; ComponentLink1Description: Website Link; ComponentLink1URL: https://www.we-online.com/redexpert/article/692141030100?ad; ComponentLink2Description: Datasheet Link; ComponentLink2URL: https://www.we-online.com/redexpert/spec/692141030100?ad; Mount: Surface Mount; Operating Temperature Min: -40degC; Operating Temperature Max: 85degC; Packaging: Tray; Application: USB 3.0; Number of Pins: 18; Orientation: Stacked Horizontal
footprint 692141030100
pins: A1 VBUS, A2 D-, A3 D+, A4 GND, A5 StdA_SSRX-, A6 StdA_SSRX+, A7 GND_DRAIN, A8 StdA_SSTX-, A9 StdA_SSTX+, B1 VBUS, B2 D-, B3 D+, B4 GND, B5 StdA_SSRX-, B6 StdA_SSRX+, B7 GND_DRAIN, B8 StdA_SSTX-, B9 StdA_SSTX+, Shell Shield

## 692221030100
designator J?
WR-COM USB 3.0 Type B Horizontal; Manufacturer: Wurth Elektronik; Match Code: WR-USB; Gender: Receptacle; Interface Type: Type B; Number of Ports: 1; Rated Current: 1.8; Working Voltage: 30V (AC); Manufacturer Part Number: 692221030100; Category: Input/Output Connector; ComponentLink1Description: Website Link; ComponentLink1URL: https://www.we-online.com/redexpert/article/692221030100?ad; ComponentLink2Description: Datasheet Link; ComponentLink2URL: https://www.we-online.com/redexpert/spec/692221030100?ad; Mount: Through Hole; Operating Temperature Min: -20degC; Operating Temperature Max: 85degC; Packaging: Tray; Application: USB 3.0; Number of Pins: 9; Orientation: Horizontal
footprint 692221030100
pins: 1 VBUS, 2 D-, 3 D+, 4 GND, 5 StdB_SSTX-, 6 StdB_SSTX+, 7 GND_DRAIN, 8 StdB_SSRX-, 9 StdB_SSRX+, Shell Shield

## 692622030100
designator J?
WR-COM Micro USB 3.0 Type B Horizontal SMT; Manufacturer: Wurth Elektronik; Match Code: WR-USB; Gender: Receptacle; Interface Type: Type B; Number of Ports: 1; Rated Current: 1.8; Working Voltage: 30V (AC); Manufacturer Part Number: 692622030100; Category: Input/Output Connector; ComponentLink1Description: Website Link; ComponentLink1URL: https://www.we-online.com/redexpert/article/692622030100?ad; ComponentLink2Description: Datasheet Link; ComponentLink2URL: https://www.we-online.com/redexpert/spec/692622030100?ad; Mount: Surface Mount; Operating Temperature Min: -20degC; Operating Temperature Max: 85degC; Packaging: Tape and Reel; Application: Micro USB 3.0; Number of Pins: 10; Orientation: Horizontal
footprint 692622030100
pins: 1 VBUS, 2 D-, 3 D+, 4 ID, 5 GND, 6 MicB_SSTX-, 7 MicB_SSTX+, 8 GND_DRAIN, 9 MicB_SSRX-, 10 MicB_SSRX+, Shell Shield

## 692622420101
designator J?
WR-COM Micro USB 3.0 Type B Vertical SMT; Manufacturer: Wurth Elektronik; Match Code: WR-USB; Gender: Receptacle; Interface Type: Type B; Number of Ports: 1; Rated Current: 1.8; Working Voltage: 30V (AC); Manufacturer Part Number: 692622420101; Category: Input/Output Connector; ComponentLink1Description: Website Link; ComponentLink1URL: https://www.we-online.com/redexpert/article/692622420101?ad; ComponentLink2Description: Datasheet Link; ComponentLink2URL: https://www.we-online.com/redexpert/spec/692622420101?ad; Mount: Surface Mount; Operating Temperature Min: -30degC; Operating Temperature Max: 85degC; Packaging: Tape and Reel with Cap; Application: Micro USB 3.0; Number of Pins: 10; Orientation: Vertical
footprint 692622420101
pins: 1 VBUS, 2 D-, 3 D+, 4 ID, 5 GND, 6 MicB_SSTX-, 7 MicB_SSTX+, 8 GND_DRAIN, 9 MicB_SSRX-, 10 MicB_SSRX+, Shell Shield